# Altium integrated library Linear Technology PMIC-Switching Reg LTC1174-LTC3901.IntLib: 2647 symbols (part 35 of 310)
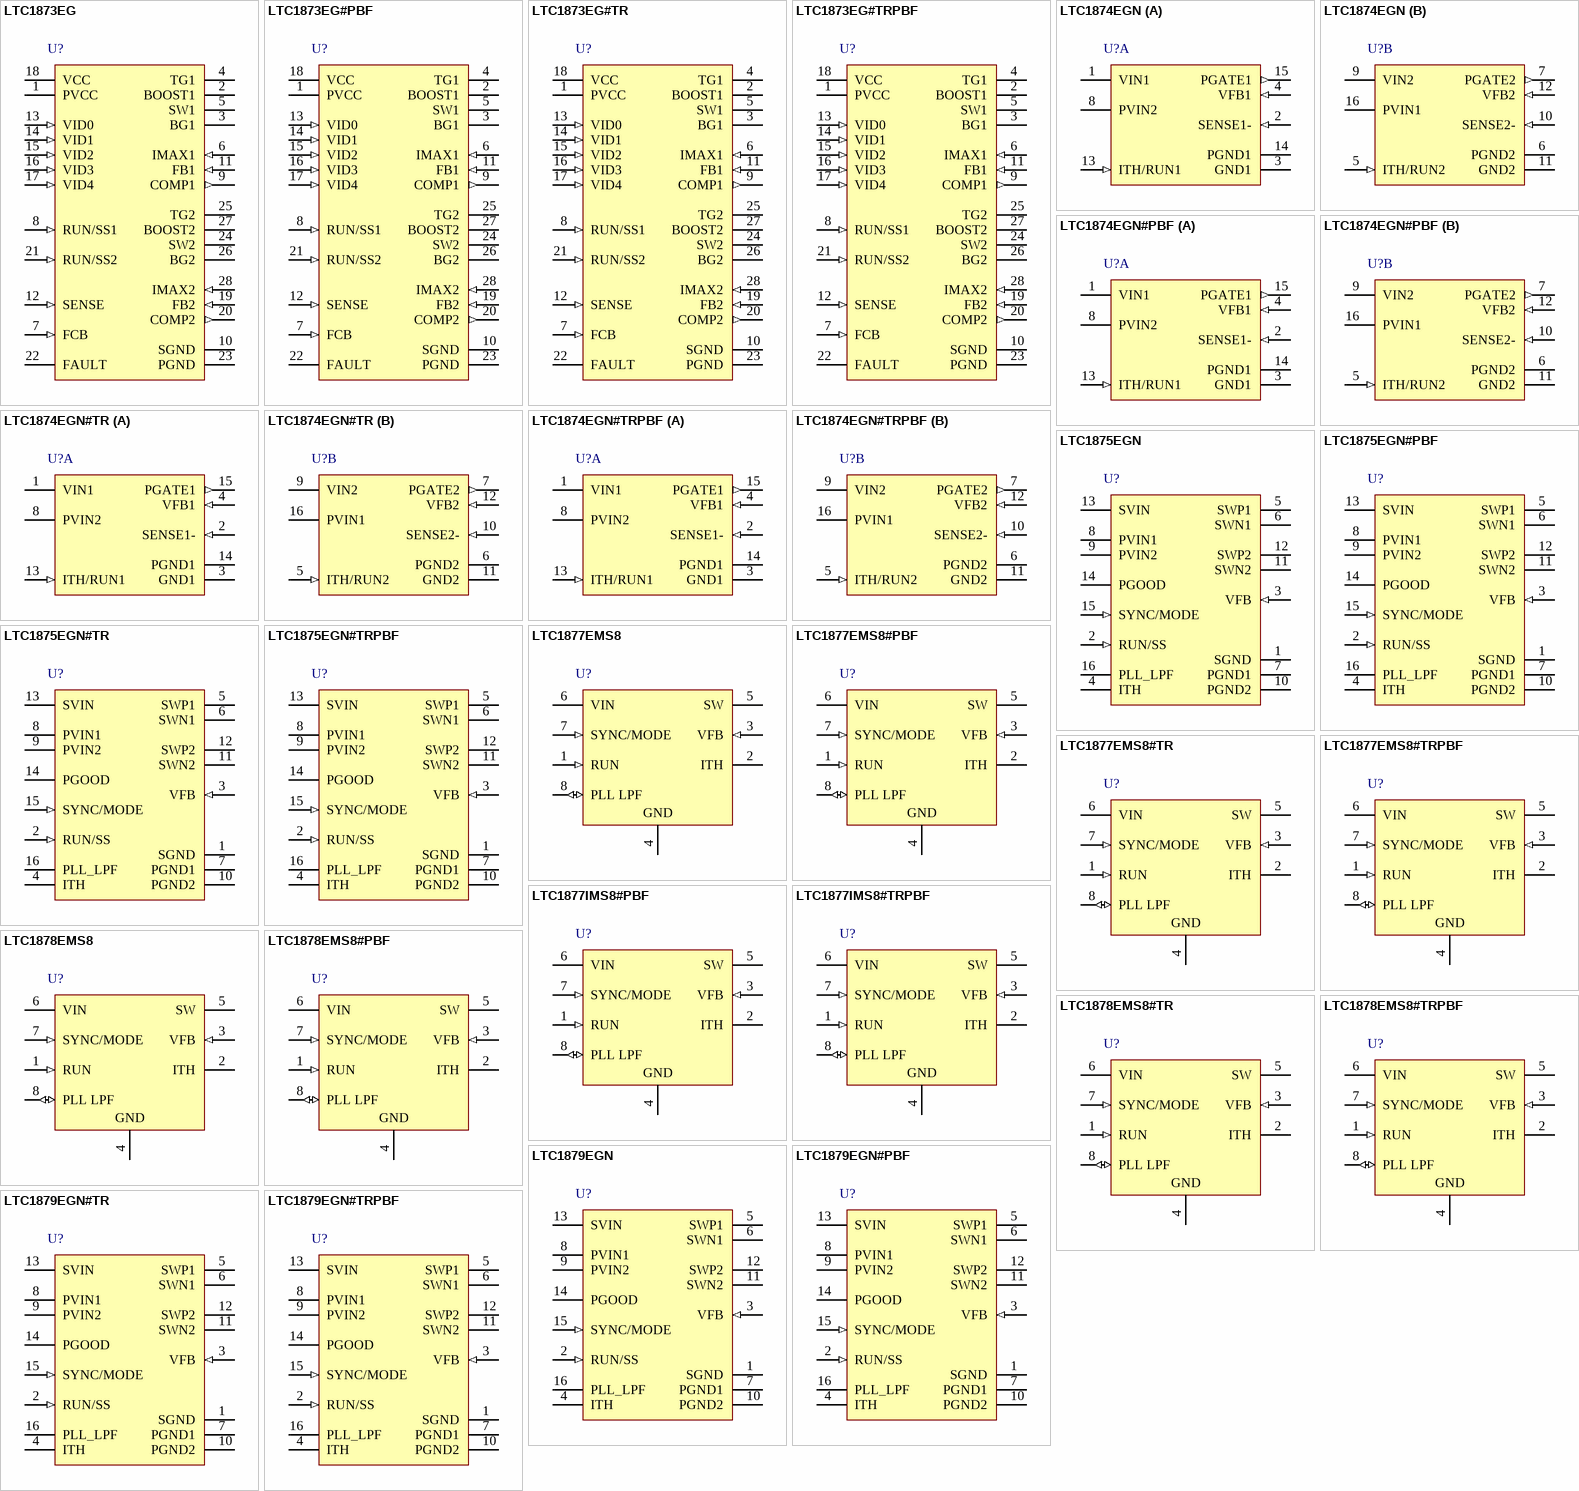
[diagram p235: symbols LTC1873EG to LTC1879EGN#TRPBF]

## LTC1873EG
designator U?
Dual 550 kHz Synchronous 2-Phase Switching Regulator Controller with 5-Bit VID, 28-pin SOP (G-28), -40 to 85 degC; Manufacturer: Linear Technology; PartNumber: LTC1873EG; Number of Outputs: 2; PackageReference: G-28; PackageDescription: 28-Pin Plastic SSOP, Body 10.2 x 5.3 mm, Pitch 0.65 mm; Supplier 1: Digi-Key; Supplier Part Number 1: LTC1873EG-ND; RoHS: FALSE
footprint LT-G-28_N (SOP, 28-Leads, Body 10.2x5.3mm, Pitch 0.65mm, IPC Medium Density)
footprint LT-G-28_L (SOP, 28-Leads, Body 10.2x5.3mm, Pitch 0.65mm, IPC High Density)
footprint LT-G-28_M (SOP, 28-Leads, Body 10.2x5.3mm, Pitch 0.65mm, IPC Low Density)
pins: 1 PVCC (power) "Driver Power Supply Input. PVCC provides power to the two BGn output drivers. PVCC must be connected to a voltage high enough to fully turn on the external MOSFETs QB1 and QB2. PVCC should generally be connected directly to (See Datasheet)", 2 BOOST1 "Controller 1 Top Gate Driver Supply. The BOOST1 pin supplies power to the floating TG1 driver. BOOST1 should be bypassed to SW1 with a 1uF capacitor. An additional Schottky diode from VIN to BOOST1 pin will create a complete (See Datasheet)", 3 BG1 (hiz) "Controller 1 Bottom Gate Drive. The BG1 pin drives the gate of the bottom N-channel synchronous switch MOSFET, QB1. BG1 is designed to drive up to 10,000pF of gate capacitance directly. If RUN/SS1 goes low, BG1 will go low, (See Datasheet)", 4 TG1 (hiz) "Controller 1 Top Gate Drive. The TG1 pin drives the gate of the top N-channel MOSFET, QT1. The TG1 driver draws power from the BOOST1 pin and returns to the SW1 pin, providing true floating drive to QT1. TG1 is designed to (See Datasheet)", 5 SW1 "Controller 1 Switching Node. SW1 should be connected to the switching node of converter 1. The TG1 driver ground returns to SW1, providing floating gate drive to the top N-channel MOSFET switch, QT1. The voltage at SW1 is (See Datasheet)", 6 IMAX1 (in) "Controller 1 Current Limit Set. The IMAX1 pin sets the current limit comparator threshold for controller 1. If the voltage drop across the bottom MOSFET, QB1, exceeds the magnitude of the voltage at IMAX1, controller 1 will (See Datasheet)", 7 FCB (in) "Force Continuous Bar. The FCB pin forces both converters to maintain continuous synchronous operation regardless of load when the voltage at FCB drops below 0.8V. FCB is normally tied to VCC. To force continuous operation, (See Datasheet)", 8 RUN/SS1 (in) "Controller 1 Run/Soft-Start. Pulling RUN/SS1 to SGND will disable controller 1 and turn off both of its external MOSFET switches. Pulling both RUN/SS pins down will shut down the entire LTC1873, dropping the quiescent supply (See Datasheet)", 9 COMP1 (out) "Controller 1 Loop Compensation. The COMP1 pin is connected directly to the output of the first controller’s error amplifier and the input to the PWM comparator. An RC network is used at the COMP1 pin to compensate th(See Datasheet)", 10 SGND (power) "Signal Ground. All internal low power circuitry returns to the SGND pin. Connect to a low impedance ground, separated from the PGND node. All feedback, compensation and soft-start connections should return to SGND. SGND and (See Datasheet)", 11 FB1 (in) "Controller 1 Feedback Input. The loop compensation network for controller 1 should be connected to FB1. FB1 is connected internally to the VID resistor network to set the output voltage at side 1.", 12 SENSE (in) "Output Sense. Connect to VOUT1.", 13 VID0 (in) "VID Programming Inputs. These are logic inputs that set the output voltage at side 1 to a preprogrammed value (see Table 1). VID4 is the MSB, VID0 is the LSB. The codes selected by the VIDn inputs correspond to the Intel (See Datasheet)", 14 VID1 (in) "VID Programming Inputs. These are logic inputs that set the output voltage at side 1 to a preprogrammed value (see Table 1). VID4 is the MSB, VID0 is the LSB. The codes selected by the VIDn inputs correspond to the Intel (See Datasheet)", 15 VID2 (in) "VID Programming Inputs. These are logic inputs that set the output voltage at side 1 to a preprogrammed value (see Table 1). VID4 is the MSB, VID0 is the LSB. The codes selected by the VIDn inputs correspond to the Intel (See Datasheet)", 16 VID3 (in) "VID Programming Inputs. These are logic inputs that set the output voltage at side 1 to a preprogrammed value (see Table 1). VID4 is the MSB, VID0 is the LSB. The codes selected by the VIDn inputs correspond to the Intel (See Datasheet)", 17 VID4 (in) "VID Programming Inputs. These are logic inputs that set the output voltage at side 1 to a preprogrammed value (see Table 1). VID4 is the MSB, VID0 is the LSB. The codes selected by the VIDn inputs correspond to the Intel (See Datasheet)", 18 VCC (power) "Power Supply Input. All internal circuits except the output drivers are powered from this pin. VCC should be connected to a low noise power supply voltage between 3V and 7V and should be bypassed to SGND with at least a 1uF (See Datasheet)", 19 FB2 (in) "Controller 2 Feedback Input. FB2 should be connected through a resistor divider network to VOUT2 to set the ouput voltage. The loop compensation network for controller 2 also connects to FB2.", 20 COMP2 (out) "Controller 2 Loop Compensation. See COMP1.", 21 RUN/SS2 (in) "Controller 2 Run/Soft-Start. See RUN/ SS1.", 22 FAULT (oc) "Output Overvoltage Fault (Latched). The FAULT pin is an open-drain output with an internal 10uA pull-up. If either regulated output voltage rises more than 15% above its programmed value for more than 25us, the FAULT output (See Datasheet)", 23 PGND (power) "Power Ground. The BGn drivers return to this pin. Connect PGND to a high current ground node in close proximity to the sources of external MOSFETs, QB1 and QB2, and the VIN and VOUT bypass capacitors.", 24 SW2 "Controller 2 Switching Node. See SW1.", 25 TG2 (hiz) "Controller 2 Top Gate Drive. See TG1.", 26 BG2 (hiz) "Controller 2 Bottom Gate Drive. See BG1.", 27 BOOST2 "Controller 2 Top Gate Driver Supply. See BOOST1.", 28 IMAX2 (in) "Controller 2 Current Limit Set. See IMAX1."